# Altium integrated library Panasonic Relays Power Relays (Over 2A).IntLib: 286 symbols (part 6 of 8)
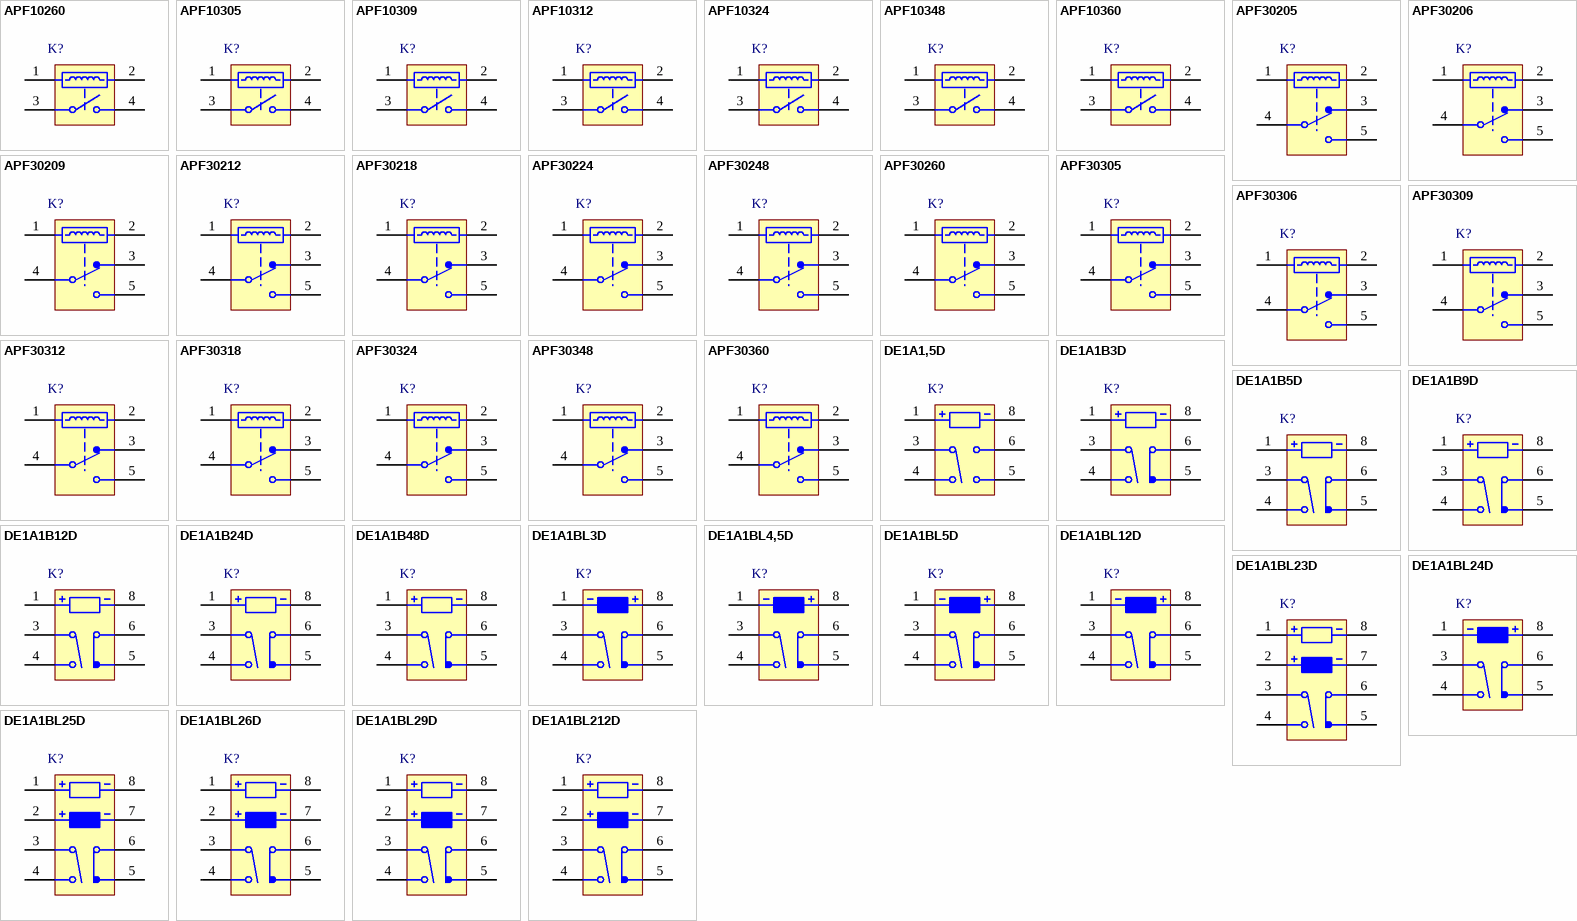
[diagram p12: symbols APF10260 to DE1A1BL212D]

## DE1A1BL24D
designator K?
DE Relays, 24 V Coil Voltage, 100 mW Nominal Operating Power, -40 to 70 degC, 6-Pin DE, Tube, Case, RoHS; Manufacturer: Panasonic; PartNumber: DE1A1BL24D; Coil Voltage: 24 V; Electrical Life: 1x10^5; Max Switching Current: 8 A; Max Switching Voltage: 440 V AC, 230 V DC; Mechanical Life(Min.operation): 1x10^7; Nominal Operating Power: 100 mW; Pb-Free: True; DatasheetVersion: 150313D; PackageVersion: 150313D, 03/2013; PackageReference: DE-6-2500x1250x1250; PackageDescription: 6-Pin Through Hole Terminal Package, Body 25 x 12.5 mm; Supplier 1: Mouser; Supplier Part Number 1: N/A; Packing: Tube, Case; RoHS: True; Series: DE Relays; Mounting Technology: Through Hole; ComponentLink1Description: Manufacturer URL; ComponentLink1URL: http://www3.panasonic.biz/ac/ae/index.jsp; ComponentLink2Description: Datasheet; ComponentLink2URL: https://www.distrelec.de/ishop/Datasheets/ds_61A01_en_de.pdf; ComponentLink3Description: Package Specification; ComponentLink3URL: https://www.distrelec.de/ishop/Datasheets/ds_61A01_en_de.pdf
footprint PNSC-DE-6-2500x1250x1250_V (DE, 6-Leads, Body 25x12.5mm)
pins: 1 -, 3, 4, 5, 6, 8 +

## DE1A1BL25D
designator K?
DE Relays, 5 V Coil Voltage, 200 mW Nominal Operating Power, -40 to 70 degC, 8-Pin DE, Tube, Case, RoHS; Manufacturer: Panasonic; PartNumber: DE1A1BL25D; Coil Voltage: 5 V; Electrical Life: 1x10^5; Max Switching Current: 8 A; Max Switching Voltage: 250 V AC, 30 V DC; Mechanical Life(Min.operation): 1x10^7; Nominal Operating Power: 200 mW; Pb-Free: True; DatasheetVersion: 201402-T; PackageVersion: 150313D, 03/2013; PackageReference: DE-8-2500x1250x1250; PackageDescription: 8-Pin Through Hole Terminal Package, Body 25 x 12.5 mm; Supplier 1: Mouser; Supplier Part Number 1: N/A; Packing: Tube, Case; RoHS: True; Series: DE Relays; Mounting Technology: Through Hole; ComponentLink1Description: Manufacturer URL; ComponentLink1URL: http://www3.panasonic.biz/ac/ae/index.jsp; ComponentLink2Description: Datasheet; ComponentLink2URL: http://www3.panasonic.biz/ac/e_download/control/relay/power/catalog/mech_eng_de.pdf?f_cd=300042; ComponentLink3Description: Package Specification; ComponentLink3URL: https://www.distrelec.de/ishop/Datasheets/ds_61A01_en_de.pdf
footprint PNSC-DE-8-2500x1250x1250_V (DE, 8-Leads, Body 25x12.5mm)
pins: 1 +, 2 +, 3, 4, 5, 6, 7 -, 8 -

## DE1A1BL26D
designator K?
DE Relays, 6 V Coil Voltage, 200 mW Nominal Operating Power, -40 to 70 degC, 8-Pin DE, Tube, Case, RoHS; Manufacturer: Panasonic; PartNumber: DE1A1BL26D; Coil Voltage: 6 V; Electrical Life: 1x10^5; Max Switching Current: 8 A; Max Switching Voltage: 440 V AC, 230 V DC; Mechanical Life(Min.operation): 1x10^7; Nominal Operating Power: 200 mW; Pb-Free: True; DatasheetVersion: 150313D; PackageVersion: 150313D, 03/2013; PackageReference: DE-8-2500x1250x1250; PackageDescription: 8-Pin Through Hole Terminal Package, Body 25 x 12.5 mm; Supplier 1: Mouser; Supplier Part Number 1: N/A; Packing: Tube, Case; RoHS: True; Series: DE Relays; Mounting Technology: Through Hole; ComponentLink1Description: Manufacturer URL; ComponentLink1URL: http://www3.panasonic.biz/ac/ae/index.jsp; ComponentLink2Description: Datasheet; ComponentLink2URL: https://www.distrelec.de/ishop/Datasheets/ds_61A01_en_de.pdf; ComponentLink3Description: Package Specification; ComponentLink3URL: https://www.distrelec.de/ishop/Datasheets/ds_61A01_en_de.pdf
footprint PNSC-DE-8-2500x1250x1250_V (DE, 8-Leads, Body 25x12.5mm)
pins: 1 +, 2 +, 3, 4, 5, 6, 7 -, 8 -

## DE1A1BL29D
designator K?
DE Relays, 9 V Coil Voltage, 200 mW Nominal Operating Power, -40 to 70 degC, 8-Pin DE, Tube, Case, RoHS; Manufacturer: Panasonic; PartNumber: DE1A1BL29D; Coil Voltage: 9 V; Electrical Life: 1x10^5; Max Switching Current: 8 A; Max Switching Voltage: 440 V AC, 230 V DC; Mechanical Life(Min.operation): 1x10^7; Nominal Operating Power: 200 mW; Pb-Free: True; DatasheetVersion: 150313D; PackageVersion: 150313D, 03/2013; PackageReference: DE-8-2500x1250x1250; PackageDescription: 8-Pin Through Hole Terminal Package, Body 25 x 12.5 mm; Supplier 1: Mouser; Supplier Part Number 1: N/A; Packing: Tube, Case; RoHS: True; Series: DE Relays; Mounting Technology: Through Hole; ComponentLink1Description: Manufacturer URL; ComponentLink1URL: http://www3.panasonic.biz/ac/ae/index.jsp; ComponentLink2Description: Datasheet; ComponentLink2URL: https://www.distrelec.de/ishop/Datasheets/ds_61A01_en_de.pdf; ComponentLink3Description: Package Specification; ComponentLink3URL: https://www.distrelec.de/ishop/Datasheets/ds_61A01_en_de.pdf
footprint PNSC-DE-8-2500x1250x1250_V (DE, 8-Leads, Body 25x12.5mm)
pins: 1 +, 2 +, 3, 4, 5, 6, 7 -, 8 -

## DE1A1BL212D
designator K?
DE Relays, 12 V Coil Voltage, 200 mW Nominal Operating Power, -40 to 70 degC, 8-Pin DE, Tube, Case, RoHS; Manufacturer: Panasonic; PartNumber: DE1A1BL212D; Coil Voltage: 12 V; Electrical Life: 1x10^5; Max Switching Current: 8 A; Max Switching Voltage: 250 V AC, 30 V DC; Mechanical Life(Min.operation): 1x10^7; Nominal Operating Power: 200 mW; Pb-Free: True; DatasheetVersion: 201402-T; PackageVersion: 150313D, 03/2013; PackageReference: DE-8-2500x1250x1250; PackageDescription: 8-Pin Through Hole Terminal Package, Body 25 x 12.5 mm; Supplier 1: Mouser; Supplier Part Number 1: N/A; Packing: Tube, Case; RoHS: True; Series: DE Relays; Mounting Technology: Through Hole; ComponentLink1Description: Manufacturer URL; ComponentLink1URL: http://www3.panasonic.biz/ac/ae/index.jsp; ComponentLink2Description: Datasheet; ComponentLink2URL: http://www3.panasonic.biz/ac/e_download/control/relay/power/catalog/mech_eng_de.pdf?f_cd=300042; ComponentLink3Description: Package Specification; ComponentLink3URL: https://www.distrelec.de/ishop/Datasheets/ds_61A01_en_de.pdf
footprint PNSC-DE-8-2500x1250x1250_V (DE, 8-Leads, Body 25x12.5mm)
pins: 1 +, 2 +, 3, 4, 5, 6, 7 -, 8 -

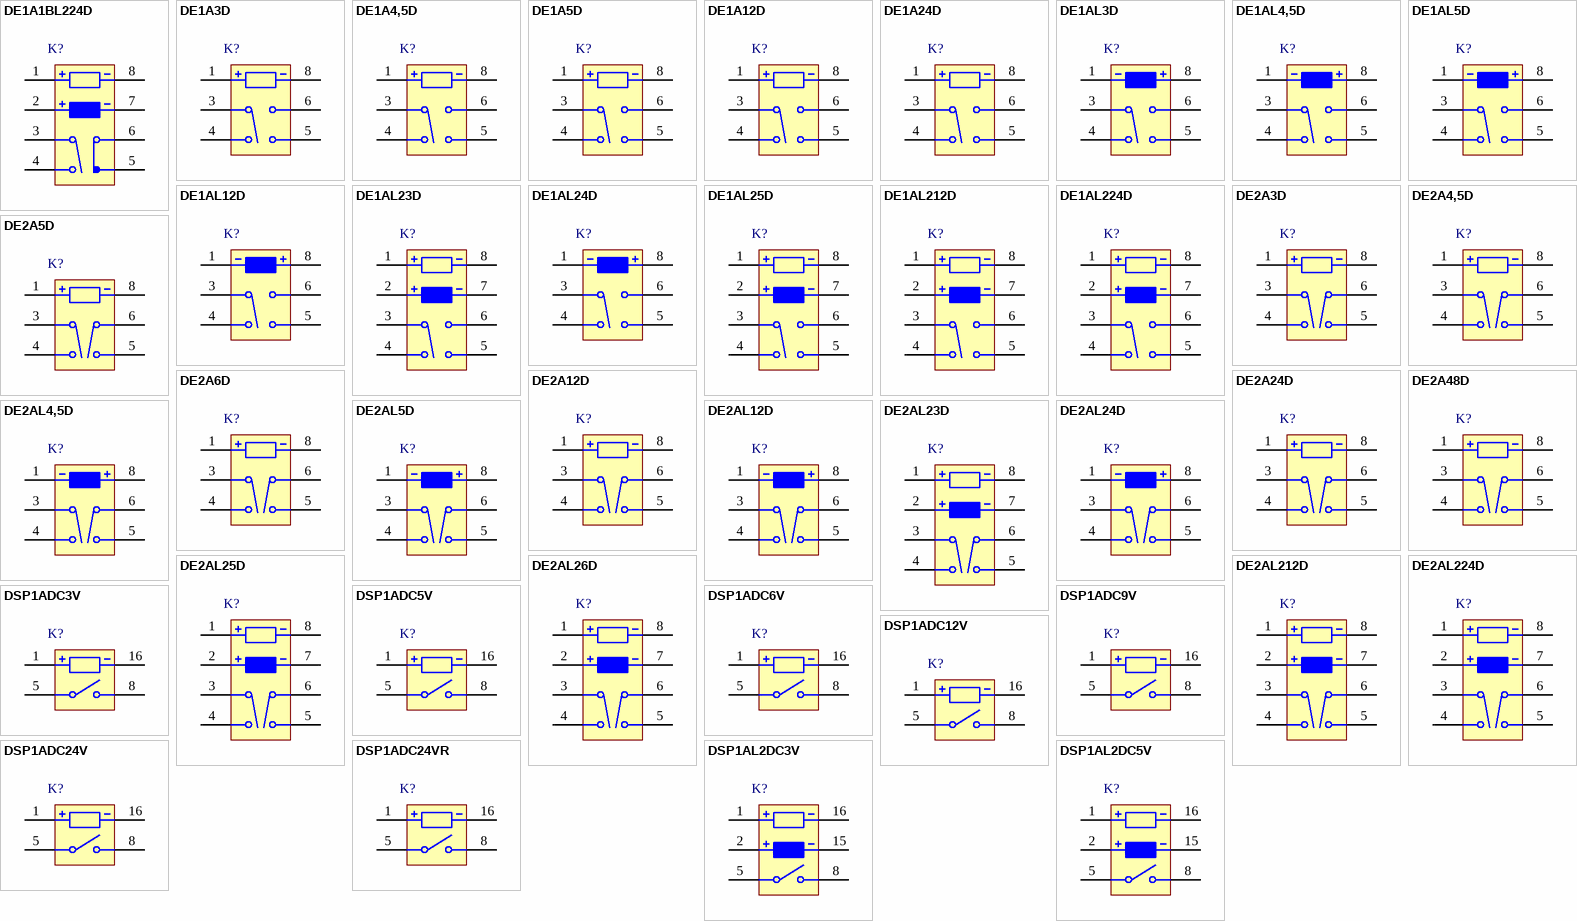
[diagram p5: symbols DE1A1BL224D to DSP1AL2DC5V]

## DE1A1BL224D
designator K?
DE Relays, 24 V Coil Voltage, 200 mW Nominal Operating Power, -40 to 70 degC, 8-Pin DE, Tube, Case, RoHS; Manufacturer: Panasonic; PartNumber: DE1A1BL224D; Coil Voltage: 24 V; Electrical Life: 1x10^5; Max Switching Current: 8 A; Max Switching Voltage: 250 V AC, 30 V DC; Mechanical Life(Min.operation): 1x10^7; Nominal Operating Power: 200 mW; Pb-Free: True; DatasheetVersion: 201402-T; PackageVersion: 150313D, 03/2013; PackageReference: DE-8-2500x1250x1250; PackageDescription: 8-Pin Through Hole Terminal Package, Body 25 x 12.5 mm; Supplier 1: Mouser; Supplier Part Number 1: N/A; Packing: Tube, Case; RoHS: True; Series: DE Relays; Mounting Technology: Through Hole; ComponentLink1Description: Manufacturer URL; ComponentLink1URL: http://www3.panasonic.biz/ac/ae/index.jsp; ComponentLink2Description: Datasheet; ComponentLink2URL: http://www3.panasonic.biz/ac/e_download/control/relay/power/catalog/mech_eng_de.pdf?f_cd=300042; ComponentLink3Description: Package Specification; ComponentLink3URL: https://www.distrelec.de/ishop/Datasheets/ds_61A01_en_de.pdf
footprint PNSC-DE-8-2500x1250x1250_V (DE, 8-Leads, Body 25x12.5mm)
pins: 1 +, 2 +, 3, 4, 5, 6, 7 -, 8 -

## DE1A3D
designator K?
DE Relays, 3 V Coil Voltage, 200 mW Nominal Operating Power, -40 to 70 degC, 6-Pin DE, Tube, Case, RoHS; Manufacturer: Panasonic; PartNumber: DE1A3D; Coil Voltage: 3 V; Electrical Life: 1x10^5; Max Switching Current: 10 A; Max Switching Voltage: 440 V AC, 230 V DC; Mechanical Life(Min.operation): 1x10^7; Nominal Operating Power: 200 mW; Pb-Free: True; DatasheetVersion: 150313D; PackageVersion: 150313D, 03/2013; PackageReference: DE-6-2500x1250x1250; PackageDescription: 6-Pin Through Hole Terminal Package, Body 25 x 12.5 mm; Supplier 1: Mouser; Supplier Part Number 1: N/A; Packing: Tube, Case; RoHS: True; Series: DE Relays; Mounting Technology: Through Hole; ComponentLink1Description: Manufacturer URL; ComponentLink1URL: http://www3.panasonic.biz/ac/ae/index.jsp; ComponentLink2Description: Datasheet; ComponentLink2URL: https://www.distrelec.de/ishop/Datasheets/ds_61A01_en_de.pdf; ComponentLink3Description: Package Specification; ComponentLink3URL: https://www.distrelec.de/ishop/Datasheets/ds_61A01_en_de.pdf
footprint PNSC-DE-6-2500x1250x1250_V (DE, 6-Leads, Body 25x12.5mm)
pins: 1 +, 3, 4, 5, 6, 8 -

## DE1A4,5D
designator K?
DE Relays, 4.5 V Coil Voltage, 200 mW Nominal Operating Power, -40 to 70 degC, 6-Pin DE, Tube, Case, RoHS; Manufacturer: Panasonic; PartNumber: DE1A4,5D; Coil Voltage: 4.5 V; Electrical Life: 1x10^5; Max Switching Current: 10 A; Max Switching Voltage: 440 V AC, 230 V DC; Mechanical Life(Min.operation): 1x10^7; Nominal Operating Power: 200 mW; Pb-Free: True; DatasheetVersion: 150313D; PackageVersion: 150313D, 03/2013; PackageReference: DE-6-2500x1250x1250; PackageDescription: 6-Pin Through Hole Terminal Package, Body 25 x 12.5 mm; Supplier 1: Mouser; Supplier Part Number 1: N/A; Packing: Tube, Case; RoHS: True; Series: DE Relays; Mounting Technology: Through Hole; ComponentLink1Description: Manufacturer URL; ComponentLink1URL: http://www3.panasonic.biz/ac/ae/index.jsp; ComponentLink2Description: Datasheet; ComponentLink2URL: https://www.distrelec.de/ishop/Datasheets/ds_61A01_en_de.pdf; ComponentLink3Description: Package Specification; ComponentLink3URL: https://www.distrelec.de/ishop/Datasheets/ds_61A01_en_de.pdf
footprint PNSC-DE-6-2500x1250x1250_V (DE, 6-Leads, Body 25x12.5mm)
pins: 1 +, 3, 4, 5, 6, 8 -

## DE1A5D
designator K?
DE Relays, 5 V Coil Voltage, 200 mW Nominal Operating Power, -40 to 70 degC, 6-Pin DE, Tube, Case, RoHS; Manufacturer: Panasonic; PartNumber: DE1A5D; Coil Voltage: 5 V; Electrical Life: 1x10^5; Max Switching Current: 10 A; Max Switching Voltage: 250 V AC, 30 V DC; Mechanical Life(Min.operation): 1x10^7; Nominal Operating Power: 200 mW; Pb-Free: True; DatasheetVersion: 201402-T; PackageVersion: ASCTB175E, 02/2014; PackageReference: DE-6-2500x1250x1250; PackageDescription: 6-Pin Through Hole Terminal Package, Body 25 x 12.5 mm; Supplier 1: Mouser; Supplier Part Number 1: N/A; Packing: Tube, Case; RoHS: True; Series: DE Relays; Mounting Technology: Through Hole; ComponentLink1Description: Manufacturer URL; ComponentLink1URL: http://www3.panasonic.biz/ac/ae/index.jsp; ComponentLink2Description: Datasheet; ComponentLink2URL: http://www3.panasonic.biz/ac/e_download/control/relay/power/catalog/mech_eng_de.pdf?f_cd=300042; ComponentLink3Description: Package Specification; ComponentLink3URL: http://www3.panasonic.biz/ac/e_download/control/relay/power/catalog/mech_eng_de.pdf?f_cd=300042
footprint PNSC-DE-6-2500x1250x1250_V (DE, 6-Leads, Body 25x12.5mm)
pins: 1 +, 3, 4, 5, 6, 8 -

## DE1A12D
designator K?
DE Relays, 12 V Coil Voltage, 200 mW Nominal Operating Power, -40 to 70 degC, 6-Pin DE, Tube, Case, RoHS; Manufacturer: Panasonic; PartNumber: DE1A12D; Coil Voltage: 12 V; Electrical Life: 1x10^5; Max Switching Current: 10 A; Max Switching Voltage: 250 V AC, 30 V DC; Mechanical Life(Min.operation): 1x10^7; Nominal Operating Power: 200 mW; Pb-Free: True; DatasheetVersion: 201402-T; PackageVersion: ASCTB175E, 02/2014; PackageReference: DE-6-2500x1250x1250; PackageDescription: 6-Pin Through Hole Terminal Package, Body 25 x 12.5 mm; Supplier 1: Mouser; Supplier Part Number 1: N/A; Packing: Tube, Case; RoHS: True; Series: DE Relays; Mounting Technology: Through Hole; ComponentLink1Description: Manufacturer URL; ComponentLink1URL: http://www3.panasonic.biz/ac/ae/index.jsp; ComponentLink2Description: Datasheet; ComponentLink2URL: http://www3.panasonic.biz/ac/e_download/control/relay/power/catalog/mech_eng_de.pdf?f_cd=300042; ComponentLink3Description: Package Specification; ComponentLink3URL: http://www3.panasonic.biz/ac/e_download/control/relay/power/catalog/mech_eng_de.pdf?f_cd=300042
footprint PNSC-DE-6-2500x1250x1250_V (DE, 6-Leads, Body 25x12.5mm)
pins: 1 +, 3, 4, 5, 6, 8 -

## DE1A24D
designator K?
DE Relays, 24 V Coil Voltage, 200 mW Nominal Operating Power, -40 to 70 degC, 6-Pin DE, Tube, Case, RoHS; Manufacturer: Panasonic; PartNumber: DE1A24D; Coil Voltage: 24 V; Electrical Life: 1x10^5; Max Switching Current: 10 A; Max Switching Voltage: 250 V AC, 30 V DC; Mechanical Life(Min.operation): 1x10^7; Nominal Operating Power: 200 mW; Pb-Free: True; DatasheetVersion: 201402-T; PackageVersion: ASCTB175E, 02/2014; PackageReference: DE-6-2500x1250x1250; PackageDescription: 6-Pin Through Hole Terminal Package, Body 25 x 12.5 mm; Supplier 1: Mouser; Supplier Part Number 1: N/A; Packing: Tube, Case; RoHS: True; Series: DE Relays; Mounting Technology: Through Hole; ComponentLink1Description: Manufacturer URL; ComponentLink1URL: http://www3.panasonic.biz/ac/ae/index.jsp; ComponentLink2Description: Datasheet; ComponentLink2URL: http://www3.panasonic.biz/ac/e_download/control/relay/power/catalog/mech_eng_de.pdf?f_cd=300042; ComponentLink3Description: Package Specification; ComponentLink3URL: http://www3.panasonic.biz/ac/e_download/control/relay/power/catalog/mech_eng_de.pdf?f_cd=300042
footprint PNSC-DE-6-2500x1250x1250_V (DE, 6-Leads, Body 25x12.5mm)
pins: 1 +, 3, 4, 5, 6, 8 -

## DE1AL3D
designator K?
DE Relays, 3 V Coil Voltage, 100 mW Nominal Operating Power, -40 to 70 degC, 6-Pin DE, Tube, Case, RoHS; Manufacturer: Panasonic; PartNumber: DE1AL3D; Coil Voltage: 3 V; Electrical Life: 1x10^5; Max Switching Current: 10 A; Max Switching Voltage: 440 V AC, 230 V DC; Mechanical Life(Min.operation): 1x10^7; Nominal Operating Power: 100 mW; Pb-Free: True; DatasheetVersion: 150313D; PackageVersion: 150313D, 03/2013; PackageReference: DE-6-2500x1250x1250; PackageDescription: 6-Pin Through Hole Terminal Package, Body 25 x 12.5 mm; Supplier 1: Mouser; Supplier Part Number 1: N/A; Packing: Tube, Case; RoHS: True; Series: DE Relays; Mounting Technology: Through Hole; ComponentLink1Description: Manufacturer URL; ComponentLink1URL: http://www3.panasonic.biz/ac/ae/index.jsp; ComponentLink2Description: Datasheet; ComponentLink2URL: https://www.distrelec.de/ishop/Datasheets/ds_61A01_en_de.pdf; ComponentLink3Description: Package Specification; ComponentLink3URL: https://www.distrelec.de/ishop/Datasheets/ds_61A01_en_de.pdf
footprint PNSC-DE-6-2500x1250x1250_V (DE, 6-Leads, Body 25x12.5mm)
pins: 1 -, 3, 4, 5, 6, 8 +

## DE1AL4,5D
designator K?
DE Relays, 4.5 V Coil Voltage, 100 mW Nominal Operating Power, -40 to 70 degC, 6-Pin DE, Tube, Case, RoHS; Manufacturer: Panasonic; PartNumber: DE1AL4,5D; Coil Voltage: 4.5 V; Electrical Life: 1x10^5; Max Switching Current: 10 A; Max Switching Voltage: 440 V AC, 230 V DC; Mechanical Life(Min.operation): 1x10^7; Nominal Operating Power: 100 mW; Pb-Free: True; DatasheetVersion: 150313D; PackageVersion: 150313D, 03/2013; PackageReference: DE-6-2500x1250x1250; PackageDescription: 6-Pin Through Hole Terminal Package, Body 25 x 12.5 mm; Supplier 1: Mouser; Supplier Part Number 1: N/A; Packing: Tube, Case; RoHS: True; Series: DE Relays; Mounting Technology: Through Hole; ComponentLink1Description: Manufacturer URL; ComponentLink1URL: http://www3.panasonic.biz/ac/ae/index.jsp; ComponentLink2Description: Datasheet; ComponentLink2URL: https://www.distrelec.de/ishop/Datasheets/ds_61A01_en_de.pdf; ComponentLink3Description: Package Specification; ComponentLink3URL: https://www.distrelec.de/ishop/Datasheets/ds_61A01_en_de.pdf
footprint PNSC-DE-6-2500x1250x1250_V (DE, 6-Leads, Body 25x12.5mm)
pins: 1 -, 3, 4, 5, 6, 8 +

## DE1AL5D
designator K?
DE Relays, 5 V Coil Voltage, 100 mW Nominal Operating Power, -40 to 70 degC, 6-Pin DE, Tube, Case, RoHS; Manufacturer: Panasonic; PartNumber: DE1AL5D; Coil Voltage: 5 V; Electrical Life: 1x10^5; Max Switching Current: 10 A; Max Switching Voltage: 440 V AC, 230 V DC; Mechanical Life(Min.operation): 1x10^7; Nominal Operating Power: 100 mW; Pb-Free: True; DatasheetVersion: 150313D; PackageVersion: 150313D, 03/2013; PackageReference: DE-6-2500x1250x1250; PackageDescription: 6-Pin Through Hole Terminal Package, Body 25 x 12.5 mm; Supplier 1: Mouser; Supplier Part Number 1: N/A; Packing: Tube, Case; RoHS: True; Series: DE Relays; Mounting Technology: Through Hole; ComponentLink1Description: Manufacturer URL; ComponentLink1URL: http://www3.panasonic.biz/ac/ae/index.jsp; ComponentLink2Description: Datasheet; ComponentLink2URL: https://www.distrelec.de/ishop/Datasheets/ds_61A01_en_de.pdf; ComponentLink3Description: Package Specification; ComponentLink3URL: https://www.distrelec.de/ishop/Datasheets/ds_61A01_en_de.pdf
footprint PNSC-DE-6-2500x1250x1250_V (DE, 6-Leads, Body 25x12.5mm)
pins: 1 -, 3, 4, 5, 6, 8 +

## DE1AL12D
designator K?
DE Relays, 12 V Coil Voltage, 100 mW Nominal Operating Power, -40 to 70 degC, 6-Pin DE, Tube, Case, RoHS; Manufacturer: Panasonic; PartNumber: DE1AL12D; Coil Voltage: 12 V; Electrical Life: 1x10^5; Max Switching Current: 10 A; Max Switching Voltage: 440 V AC, 230 V DC; Mechanical Life(Min.operation): 1x10^7; Nominal Operating Power: 100 mW; Pb-Free: True; DatasheetVersion: 150313D; PackageVersion: 150313D, 03/2013; PackageReference: DE-6-2500x1250x1250; PackageDescription: 6-Pin Through Hole Terminal Package, Body 25 x 12.5 mm; Supplier 1: Mouser; Supplier Part Number 1: N/A; Packing: Tube, Case; RoHS: True; Series: DE Relays; Mounting Technology: Through Hole; ComponentLink1Description: Manufacturer URL; ComponentLink1URL: http://www3.panasonic.biz/ac/ae/index.jsp; ComponentLink2Description: Datasheet; ComponentLink2URL: https://www.distrelec.de/ishop/Datasheets/ds_61A01_en_de.pdf; ComponentLink3Description: Package Specification; ComponentLink3URL: https://www.distrelec.de/ishop/Datasheets/ds_61A01_en_de.pdf
footprint PNSC-DE-6-2500x1250x1250_V (DE, 6-Leads, Body 25x12.5mm)
pins: 1 -, 3, 4, 5, 6, 8 +

## DE1AL23D
designator K?
DE Relays, 3 V Coil Voltage, 200 mW Nominal Operating Power, -40 to 70 degC, 8-Pin DE, Tube, Case, RoHS; Manufacturer: Panasonic; PartNumber: DE1AL23D; Coil Voltage: 3 V; Electrical Life: 1x10^5; Max Switching Current: 10 A; Max Switching Voltage: 440 V AC, 230 V DC; Mechanical Life(Min.operation): 1x10^7; Nominal Operating Power: 200 mW; Pb-Free: True; DatasheetVersion: 150313D; PackageVersion: 150313D, 03/2013; PackageReference: DE-8-2500x1250x1250; PackageDescription: 8-Pin Through Hole Terminal Package, Body 25 x 12.5 mm; Supplier 1: Mouser; Supplier Part Number 1: N/A; Packing: Tube, Case; RoHS: True; Series: DE Relays; Mounting Technology: Through Hole; ComponentLink1Description: Manufacturer URL; ComponentLink1URL: http://www3.panasonic.biz/ac/ae/index.jsp; ComponentLink2Description: Datasheet; ComponentLink2URL: https://www.distrelec.de/ishop/Datasheets/ds_61A01_en_de.pdf; ComponentLink3Description: Package Specification; ComponentLink3URL: https://www.distrelec.de/ishop/Datasheets/ds_61A01_en_de.pdf
footprint PNSC-DE-8-2500x1250x1250_V (DE, 8-Leads, Body 25x12.5mm)
pins: 1 +, 2 +, 3, 4, 5, 6, 7 -, 8 -

## DE1AL24D
designator K?
DE Relays, 24 V Coil Voltage, 100 mW Nominal Operating Power, -40 to 70 degC, 6-Pin DE, Tube, Case, RoHS; Manufacturer: Panasonic; PartNumber: DE1AL24D; Coil Voltage: 24 V; Electrical Life: 1x10^5; Max Switching Current: 10 A; Max Switching Voltage: 440 V AC, 230 V DC; Mechanical Life(Min.operation): 1x10^7; Nominal Operating Power: 100 mW; Pb-Free: True; DatasheetVersion: 150313D; PackageVersion: 150313D, 03/2013; PackageReference: DE-6-2500x1250x1250; PackageDescription: 6-Pin Through Hole Terminal Package, Body 25 x 12.5 mm; Supplier 1: Mouser; Supplier Part Number 1: N/A; Packing: Tube, Case; RoHS: True; Series: DE Relays; Mounting Technology: Through Hole; ComponentLink1Description: Manufacturer URL; ComponentLink1URL: http://www3.panasonic.biz/ac/ae/index.jsp; ComponentLink2Description: Datasheet; ComponentLink2URL: https://www.distrelec.de/ishop/Datasheets/ds_61A01_en_de.pdf; ComponentLink3Description: Package Specification; ComponentLink3URL: https://www.distrelec.de/ishop/Datasheets/ds_61A01_en_de.pdf
footprint PNSC-DE-6-2500x1250x1250_V (DE, 6-Leads, Body 25x12.5mm)
pins: 1 -, 3, 4, 5, 6, 8 +

## DE1AL25D
designator K?
DE Relays, 5 V Coil Voltage, 200 mW Nominal Operating Power, -40 to 70 degC, 8-Pin DE, Tube, Case, RoHS; Manufacturer: Panasonic; PartNumber: DE1AL25D; Coil Voltage: 5 V; Electrical Life: 1x10^5; Max Switching Current: 10 A; Max Switching Voltage: 250 V AC, 30 V DC; Mechanical Life(Min.operation): 1x10^7; Nominal Operating Power: 200 mW; Pb-Free: True; DatasheetVersion: 201402-T; PackageVersion: 150313D, 03/2013; PackageReference: DE-8-2500x1250x1250; PackageDescription: 8-Pin Through Hole Terminal Package, Body 25 x 12.5 mm; Supplier 1: Mouser; Supplier Part Number 1: N/A; Packing: Tube, Case; RoHS: True; Series: DE Relays; Mounting Technology: Through Hole; ComponentLink1Description: Manufacturer URL; ComponentLink1URL: http://www3.panasonic.biz/ac/ae/index.jsp; ComponentLink2Description: Datasheet; ComponentLink2URL: http://www3.panasonic.biz/ac/e_download/control/relay/power/catalog/mech_eng_de.pdf?f_cd=300042; ComponentLink3Description: Package Specification; ComponentLink3URL: https://www.distrelec.de/ishop/Datasheets/ds_61A01_en_de.pdf
footprint PNSC-DE-8-2500x1250x1250_V (DE, 8-Leads, Body 25x12.5mm)
pins: 1 +, 2 +, 3, 4, 5, 6, 7 -, 8 -

## DE1AL212D
designator K?
DE Relays, 12 V Coil Voltage, 200 mW Nominal Operating Power, -40 to 70 degC, 8-Pin DE, Tube, Case, RoHS; Manufacturer: Panasonic; PartNumber: DE1AL212D; Coil Voltage: 12 V; Electrical Life: 1x10^5; Max Switching Current: 10 A; Max Switching Voltage: 250 V AC, 30 V DC; Mechanical Life(Min.operation): 1x10^7; Nominal Operating Power: 200 mW; Pb-Free: True; DatasheetVersion: 201402-T; PackageVersion: 150313D, 03/2013; PackageReference: DE-8-2500x1250x1250; PackageDescription: 8-Pin Through Hole Terminal Package, Body 25 x 12.5 mm; Supplier 1: Mouser; Supplier Part Number 1: N/A; Packing: Tube, Case; RoHS: True; Series: DE Relays; Mounting Technology: Through Hole; ComponentLink1Description: Manufacturer URL; ComponentLink1URL: http://www3.panasonic.biz/ac/ae/index.jsp; ComponentLink2Description: Datasheet; ComponentLink2URL: http://www3.panasonic.biz/ac/e_download/control/relay/power/catalog/mech_eng_de.pdf?f_cd=300042; ComponentLink3Description: Package Specification; ComponentLink3URL: https://www.distrelec.de/ishop/Datasheets/ds_61A01_en_de.pdf
footprint PNSC-DE-8-2500x1250x1250_V (DE, 8-Leads, Body 25x12.5mm)
pins: 1 +, 2 +, 3, 4, 5, 6, 7 -, 8 -

## DE1AL224D
designator K?
DE Relays, 24 V Coil Voltage, 200 mW Nominal Operating Power, -40 to 70 degC, 8-Pin DE, Tube, Case, RoHS; Manufacturer: Panasonic; PartNumber: DE1AL224D; Coil Voltage: 24 V; Electrical Life: 1x10^5; Max Switching Current: 10 A; Max Switching Voltage: 250 V AC, 30 V DC; Mechanical Life(Min.operation): 1x10^7; Nominal Operating Power: 200 mW; Pb-Free: True; DatasheetVersion: 201402-T; PackageVersion: 150313D, 03/2013; PackageReference: DE-8-2500x1250x1250; PackageDescription: 8-Pin Through Hole Terminal Package, Body 25 x 12.5 mm; Supplier 1: Mouser; Supplier Part Number 1: N/A; Packing: Tube, Case; RoHS: True; Series: DE Relays; Mounting Technology: Through Hole; ComponentLink1Description: Manufacturer URL; ComponentLink1URL: http://www3.panasonic.biz/ac/ae/index.jsp; ComponentLink2Description: Datasheet; ComponentLink2URL: http://www3.panasonic.biz/ac/e_download/control/relay/power/catalog/mech_eng_de.pdf?f_cd=300042; ComponentLink3Description: Package Specification; ComponentLink3URL: https://www.distrelec.de/ishop/Datasheets/ds_61A01_en_de.pdf
footprint PNSC-DE-8-2500x1250x1250_V (DE, 8-Leads, Body 25x12.5mm)
pins: 1 +, 2 +, 3, 4, 5, 6, 7 -, 8 -

## DE2A3D
designator K?
DE Relays, 3 V Coil Voltage, 200 mW Nominal Operating Power, -40 to 70 degC, 6-Pin DE, Tube, Case, RoHS; Manufacturer: Panasonic; PartNumber: DE2A3D; Coil Voltage: 3 V; Electrical Life: 1x10^5 AC, 5x10^4 DC; Max Switching Current: 8 A; Max Switching Voltage: 440 V AC, 230 V DC; Mechanical Life(Min.operation): 1x10^7; Nominal Operating Power: 200 mW; Pb-Free: True; DatasheetVersion: 150313D; PackageVersion: 150313D, 03/2013; PackageReference: DE-6-2500x1250x1250; PackageDescription: 6-Pin Through Hole Terminal Package, Body 25 x 12.5 mm; Supplier 1: Mouser; Supplier Part Number 1: N/A; Packing: Tube, Case; RoHS: True; Series: DE Relays; Mounting Technology: Through Hole; ComponentLink1Description: Manufacturer URL; ComponentLink1URL: http://www3.panasonic.biz/ac/ae/index.jsp; ComponentLink2Description: Datasheet; ComponentLink2URL: https://www.distrelec.de/ishop/Datasheets/ds_61A01_en_de.pdf; ComponentLink3Description: Package Specification; ComponentLink3URL: https://www.distrelec.de/ishop/Datasheets/ds_61A01_en_de.pdf
footprint PNSC-DE-6-2500x1250x1250_V (DE, 6-Leads, Body 25x12.5mm)
pins: 1 +, 3, 4, 5, 6, 8 -

## DE2A4,5D
designator K?
DE Relays, 4.5 V Coil Voltage, 200 mW Nominal Operating Power, -40 to 70 degC, 6-Pin DE, Tube, Case, RoHS; Manufacturer: Panasonic; PartNumber: DE2A4,5D; Coil Voltage: 4.5 V; Electrical Life: 1x10^5 AC, 5x10^4 DC; Max Switching Current: 8 A; Max Switching Voltage: 440 V AC, 230 V DC; Mechanical Life(Min.operation): 1x10^7; Nominal Operating Power: 200 mW; Pb-Free: True; DatasheetVersion: 150313D; PackageVersion: 150313D, 03/2013; PackageReference: DE-6-2500x1250x1250; PackageDescription: 6-Pin Through Hole Terminal Package, Body 25 x 12.5 mm; Supplier 1: Mouser; Supplier Part Number 1: N/A; Packing: Tube, Case; RoHS: True; Series: DE Relays; Mounting Technology: Through Hole; ComponentLink1Description: Manufacturer URL; ComponentLink1URL: http://www3.panasonic.biz/ac/ae/index.jsp; ComponentLink2Description: Datasheet; ComponentLink2URL: https://www.distrelec.de/ishop/Datasheets/ds_61A01_en_de.pdf; ComponentLink3Description: Package Specification; ComponentLink3URL: https://www.distrelec.de/ishop/Datasheets/ds_61A01_en_de.pdf
footprint PNSC-DE-6-2500x1250x1250_V (DE, 6-Leads, Body 25x12.5mm)
pins: 1 +, 3, 4, 5, 6, 8 -

## DE2A5D
designator K?
DE Relays, 5 V Coil Voltage, 200 mW Nominal Operating Power, -40 to 70 degC, 6-Pin DE, Tube, Case, RoHS; Manufacturer: Panasonic; PartNumber: DE2A5D; Coil Voltage: 5 V; Electrical Life: 1x10^5 AC, 5x10^4 DC; Max Switching Current: 8 A; Max Switching Voltage: 250 V AC, 30 V DC; Mechanical Life(Min.operation): 1x10^7; Nominal Operating Power: 200 mW; Pb-Free: True; DatasheetVersion: 201402-T; PackageVersion: ASCTB175E, 02/2014; PackageReference: DE-6-2500x1250x1250; PackageDescription: 6-Pin Through Hole Terminal Package, Body 25 x 12.5 mm; Supplier 1: Mouser; Supplier Part Number 1: N/A; Packing: Tube, Case; RoHS: True; Series: DE Relays; Mounting Technology: Through Hole; ComponentLink1Description: Manufacturer URL; ComponentLink1URL: http://www3.panasonic.biz/ac/ae/index.jsp; ComponentLink2Description: Datasheet; ComponentLink2URL: http://www3.panasonic.biz/ac/e_download/control/relay/power/catalog/mech_eng_de.pdf?f_cd=300042; ComponentLink3Description: Package Specification; ComponentLink3URL: http://www3.panasonic.biz/ac/e_download/control/relay/power/catalog/mech_eng_de.pdf?f_cd=300042
footprint PNSC-DE-6-2500x1250x1250_V (DE, 6-Leads, Body 25x12.5mm)
pins: 1 +, 3, 4, 5, 6, 8 -

## DE2A6D
designator K?
DE Relays, 6 V Coil Voltage, 200 mW Nominal Operating Power, -40 to 70 degC, 6-Pin DE, Tube, Case, RoHS; Manufacturer: Panasonic; PartNumber: DE2A6D; Coil Voltage: 6 V; Electrical Life: 1x10^5 AC, 5x10^4 DC; Max Switching Current: 8 A; Max Switching Voltage: 440 V AC, 230 V DC; Mechanical Life(Min.operation): 1x10^7; Nominal Operating Power: 200 mW; Pb-Free: True; DatasheetVersion: 150313D; PackageVersion: 150313D, 03/2013; PackageReference: DE-6-2500x1250x1250; PackageDescription: 6-Pin Through Hole Terminal Package, Body 25 x 12.5 mm; Packing: Tube, Case; RoHS: True; Series: DE Relays; Mounting Technology: Through Hole; ComponentLink1Description: Manufacturer URL; ComponentLink1URL: http://www3.panasonic.biz/ac/ae/index.jsp; ComponentLink2Description: Datasheet; ComponentLink2URL: https://www.distrelec.de/ishop/Datasheets/ds_61A01_en_de.pdf; ComponentLink3Description: Package Specification; ComponentLink3URL: https://www.distrelec.de/ishop/Datasheets/ds_61A01_en_de.pdf
footprint PNSC-DE-6-2500x1250x1250_V (DE, 6-Leads, Body 25x12.5mm)
pins: 1 +, 3, 4, 5, 6, 8 -

## DE2A12D
designator K?
DE Relays, 12 V Coil Voltage, 200 mW Nominal Operating Power, -40 to 70 degC, 6-Pin DE, Tube, Case, RoHS; Manufacturer: Panasonic; PartNumber: DE2A12D; Coil Voltage: 12 V; Electrical Life: 1x10^5 AC, 5x10^4 DC; Max Switching Current: 8 A; Max Switching Voltage: 250 V AC, 30 V DC; Mechanical Life(Min.operation): 1x10^7; Nominal Operating Power: 200 mW; Pb-Free: True; DatasheetVersion: 201402-T; PackageVersion: ASCTB175E, 02/2014; PackageReference: DE-6-2500x1250x1250; PackageDescription: 6-Pin Through Hole Terminal Package, Body 25 x 12.5 mm; Supplier 1: Mouser; Supplier Part Number 1: N/A; Packing: Tube, Case; RoHS: True; Series: DE Relays; Mounting Technology: Through Hole; ComponentLink1Description: Manufacturer URL; ComponentLink1URL: http://www3.panasonic.biz/ac/ae/index.jsp; ComponentLink2Description: Datasheet; ComponentLink2URL: http://www3.panasonic.biz/ac/e_download/control/relay/power/catalog/mech_eng_de.pdf?f_cd=300042; ComponentLink3Description: Package Specification; ComponentLink3URL: http://www3.panasonic.biz/ac/e_download/control/relay/power/catalog/mech_eng_de.pdf?f_cd=300042
footprint PNSC-DE-6-2500x1250x1250_V (DE, 6-Leads, Body 25x12.5mm)
pins: 1 +, 3, 4, 5, 6, 8 -

## DE2A24D
designator K?
DE Relays, 24 V Coil Voltage, 200 mW Nominal Operating Power, -40 to 70 degC, 6-Pin DE, Tube, Case, RoHS; Manufacturer: Panasonic; PartNumber: DE2A24D; Coil Voltage: 24 V; Electrical Life: 1x10^5 AC, 5x10^4 DC; Max Switching Current: 8 A; Max Switching Voltage: 250 V AC, 30 V DC; Mechanical Life(Min.operation): 1x10^7; Nominal Operating Power: 200 mW; Pb-Free: True; DatasheetVersion: 201402-T; PackageVersion: ASCTB175E, 02/2014; PackageReference: DE-6-2500x1250x1250; PackageDescription: 6-Pin Through Hole Terminal Package, Body 25 x 12.5 mm; Supplier 1: Mouser; Supplier Part Number 1: N/A; Packing: Tube, Case; RoHS: True; Series: DE Relays; Mounting Technology: Through Hole; ComponentLink1Description: Manufacturer URL; ComponentLink1URL: http://www3.panasonic.biz/ac/ae/index.jsp; ComponentLink2Description: Datasheet; ComponentLink2URL: http://www3.panasonic.biz/ac/e_download/control/relay/power/catalog/mech_eng_de.pdf?f_cd=300042; ComponentLink3Description: Package Specification; ComponentLink3URL: http://www3.panasonic.biz/ac/e_download/control/relay/power/catalog/mech_eng_de.pdf?f_cd=300042
footprint PNSC-DE-6-2500x1250x1250_V (DE, 6-Leads, Body 25x12.5mm)
pins: 1 +, 3, 4, 5, 6, 8 -

## DE2A48D
designator K?
DE Relays, 48 V Coil Voltage, 200 mW Nominal Operating Power, -40 to 70 degC, 6-Pin DE, Tube, Case, RoHS; Manufacturer: Panasonic; PartNumber: DE2A48D; Coil Voltage: 48 V; Electrical Life: 1x10^5 AC, 5x10^4 DC; Max Switching Current: 8 A; Max Switching Voltage: 440 V AC, 230 V DC; Mechanical Life(Min.operation): 1x10^7; Nominal Operating Power: 200 mW; Pb-Free: True; DatasheetVersion: 150313D; PackageVersion: 150313D, 03/2013; PackageReference: DE-6-2500x1250x1250; PackageDescription: 6-Pin Through Hole Terminal Package, Body 25 x 12.5 mm; Supplier 1: Mouser; Supplier Part Number 1: N/A; Packing: Tube, Case; RoHS: True; Series: DE Relays; Mounting Technology: Through Hole; ComponentLink1Description: Manufacturer URL; ComponentLink1URL: http://www3.panasonic.biz/ac/ae/index.jsp; ComponentLink2Description: Datasheet; ComponentLink2URL: https://www.distrelec.de/ishop/Datasheets/ds_61A01_en_de.pdf; ComponentLink3Description: Package Specification; ComponentLink3URL: https://www.distrelec.de/ishop/Datasheets/ds_61A01_en_de.pdf
footprint PNSC-DE-6-2500x1250x1250_V (DE, 6-Leads, Body 25x12.5mm)
pins: 1 +, 3, 4, 5, 6, 8 -

## DE2AL4,5D
designator K?
DE Relays, 4.5 V Coil Voltage, 100 mW Nominal Operating Power, -40 to 70 degC, 6-Pin DE, Tube, Case, RoHS; Manufacturer: Panasonic; PartNumber: DE2AL4,5D; Coil Voltage: 4.5 V; Electrical Life: 1x10^5 AC, 5x10^4 DC; Max Switching Current: 8 A; Max Switching Voltage: 440 V AC, 230 V DC; Mechanical Life(Min.operation): 1x10^7; Nominal Operating Power: 100 mW; Pb-Free: True; DatasheetVersion: 150313D; PackageVersion: 150313D, 03/2013; PackageReference: DE-6-2500x1250x1250; PackageDescription: 6-Pin Through Hole Terminal Package, Body 25 x 12.5 mm; Supplier 1: Mouser; Supplier Part Number 1: N/A; Packing: Tube, Case; RoHS: True; Series: DE Relays; Mounting Technology: Through Hole; ComponentLink1Description: Manufacturer URL; ComponentLink1URL: http://www3.panasonic.biz/ac/ae/index.jsp; ComponentLink2Description: Datasheet; ComponentLink2URL: https://www.distrelec.de/ishop/Datasheets/ds_61A01_en_de.pdf; ComponentLink3Description: Package Specification; ComponentLink3URL: https://www.distrelec.de/ishop/Datasheets/ds_61A01_en_de.pdf
footprint PNSC-DE-6-2500x1250x1250_V (DE, 6-Leads, Body 25x12.5mm)
pins: 1 -, 3, 4, 5, 6, 8 +

## DE2AL5D
designator K?
DE Relays, 5 V Coil Voltage, 100 mW Nominal Operating Power, -40 to 70 degC, 6-Pin DE, Tube, Case, RoHS; Manufacturer: Panasonic; PartNumber: DE2AL5D; Coil Voltage: 5 V; Electrical Life: 1x10^5 AC, 5x10^4 DC; Max Switching Current: 8 A; Max Switching Voltage: 440 V AC, 230 V DC; Mechanical Life(Min.operation): 1x10^7; Nominal Operating Power: 200 mW; Pb-Free: True; DatasheetVersion: 150313D; PackageVersion: 150313D, 03/2013; PackageReference: DE-6-2500x1250x1250; PackageDescription: 6-Pin Through Hole Terminal Package, Body 25 x 12.5 mm; Supplier 1: Mouser; Supplier Part Number 1: N/A; Packing: Tube, Case; RoHS: True; Series: DE Relays; Mounting Technology: Through Hole; ComponentLink1Description: Manufacturer URL; ComponentLink1URL: http://www3.panasonic.biz/ac/ae/index.jsp; ComponentLink2Description: Datasheet; ComponentLink2URL: https://www.distrelec.de/ishop/Datasheets/ds_61A01_en_de.pdf; ComponentLink3Description: Package Specification; ComponentLink3URL: https://www.distrelec.de/ishop/Datasheets/ds_61A01_en_de.pdf
footprint PNSC-DE-6-2500x1250x1250_V (DE, 6-Leads, Body 25x12.5mm)
pins: 1 -, 3, 4, 5, 6, 8 +

## DE2AL12D
designator K?
DE Relays, 12 V Coil Voltage, 100 mW Nominal Operating Power, -40 to 70 degC, 6-Pin DE, Tube, Case, RoHS; Manufacturer: Panasonic; PartNumber: DE2AL12D; Coil Voltage: 12 V; Electrical Life: 1x10^5 AC, 5x10^4 DC; Max Switching Current: 8 A; Max Switching Voltage: 440 V AC, 230 V DC; Mechanical Life(Min.operation): 1x10^7; Nominal Operating Power: 200 mW; Pb-Free: True; DatasheetVersion: 150313D; PackageVersion: 150313D, 03/2013; PackageReference: DE-6-2500x1250x1250; PackageDescription: 6-Pin Through Hole Terminal Package, Body 25 x 12.5 mm; Packing: Tube, Case; RoHS: True; Series: DE Relays; Mounting Technology: Through Hole; ComponentLink1Description: Manufacturer URL; ComponentLink1URL: http://www3.panasonic.biz/ac/ae/index.jsp; ComponentLink2Description: Datasheet; ComponentLink2URL: https://www.distrelec.de/ishop/Datasheets/ds_61A01_en_de.pdf; ComponentLink3Description: Package Specification; ComponentLink3URL: https://www.distrelec.de/ishop/Datasheets/ds_61A01_en_de.pdf
footprint PNSC-DE-6-2500x1250x1250_V (DE, 6-Leads, Body 25x12.5mm)
pins: 1 -, 3, 4, 5, 6, 8 +

## DE2AL23D
designator K?
DE Relays, 3 V Coil Voltage, 200 mW Nominal Operating Power, -40 to 70 degC, 8-Pin DE, Tube, Case, RoHS; Manufacturer: Panasonic; PartNumber: DE2AL23D; Coil Voltage: 3 V; Electrical Life: 1x10^5 AC, 5x10^4 DC; Max Switching Current: 8 A; Max Switching Voltage: 440 V AC, 230 V DC; Mechanical Life(Min.operation): 1x10^7; Nominal Operating Power: 200 mW; Pb-Free: True; DatasheetVersion: 150313D; PackageVersion: 150313D, 03/2013; PackageReference: DE-8-2500x1250x1250; PackageDescription: 8-Pin Through Hole Terminal Package, Body 25 x 12.5 mm; Supplier 1: Mouser; Supplier Part Number 1: N/A; Packing: Tube, Case; RoHS: True; Series: DE Relays; Mounting Technology: Through Hole; ComponentLink1Description: Manufacturer URL; ComponentLink1URL: http://www3.panasonic.biz/ac/ae/index.jsp; ComponentLink2Description: Datasheet; ComponentLink2URL: https://www.distrelec.de/ishop/Datasheets/ds_61A01_en_de.pdf; ComponentLink3Description: Package Specification; ComponentLink3URL: https://www.distrelec.de/ishop/Datasheets/ds_61A01_en_de.pdf
footprint PNSC-DE-8-2500x1250x1250_V (DE, 8-Leads, Body 25x12.5mm)
pins: 1 +, 2 +, 3, 4, 5, 6, 7 -, 8 -

## DE2AL24D
designator K?
DE Relays, 24 V Coil Voltage, 100 mW Nominal Operating Power, -40 to 70 degC, 6-Pin DE, Tube, Case, RoHS; Manufacturer: Panasonic; PartNumber: DE2AL24D; Coil Voltage: 24 V; Electrical Life: 1x10^5 AC, 5x10^4 DC; Max Switching Current: 8 A; Max Switching Voltage: 440 V AC, 230 V DC; Mechanical Life(Min.operation): 1x10^7; Nominal Operating Power: 200 mW; Pb-Free: True; DatasheetVersion: 150313D; PackageVersion: 150313D, 03/2013; PackageReference: DE-6-2500x1250x1250; PackageDescription: 6-Pin Through Hole Terminal Package, Body 25 x 12.5 mm; Supplier 1: Mouser; Supplier Part Number 1: N/A; Packing: Tube, Case; RoHS: True; Series: DE Relays; Mounting Technology: Through Hole; ComponentLink1Description: Manufacturer URL; ComponentLink1URL: http://www3.panasonic.biz/ac/ae/index.jsp; ComponentLink2Description: Datasheet; ComponentLink2URL: https://www.distrelec.de/ishop/Datasheets/ds_61A01_en_de.pdf; ComponentLink3Description: Package Specification; ComponentLink3URL: https://www.distrelec.de/ishop/Datasheets/ds_61A01_en_de.pdf
footprint PNSC-DE-6-2500x1250x1250_V (DE, 6-Leads, Body 25x12.5mm)
pins: 1 -, 3, 4, 5, 6, 8 +

## DE2AL25D
designator K?
DE Relays, 5 V Coil Voltage, 200 mW Nominal Operating Power, -40 to 70 degC, 8-Pin DE, Tube, Case, RoHS; Manufacturer: Panasonic; PartNumber: DE2AL25D; Coil Voltage: 5 V; Electrical Life: 1x10^5 AC, 5x10^4 DC; Max Switching Current: 8 A; Max Switching Voltage: 250 V AC, 30 V DC; Mechanical Life(Min.operation): 1x10^7; Nominal Operating Power: 200 mW; Pb-Free: True; DatasheetVersion: 201402-T; PackageVersion: 150313D, 03/2013; PackageReference: DE-8-2500x1250x1250; PackageDescription: 8-Pin Through Hole Terminal Package, Body 25 x 12.5 mm; Supplier 1: Mouser; Supplier Part Number 1: N/A; Packing: Tube, Case; RoHS: True; Series: DE Relays; Mounting Technology: Through Hole; ComponentLink1Description: Manufacturer URL; ComponentLink1URL: http://www3.panasonic.biz/ac/ae/index.jsp; ComponentLink2Description: Datasheet; ComponentLink2URL: http://www3.panasonic.biz/ac/e_download/control/relay/power/catalog/mech_eng_de.pdf?f_cd=300042; ComponentLink3Description: Package Specification; ComponentLink3URL: https://www.distrelec.de/ishop/Datasheets/ds_61A01_en_de.pdf
footprint PNSC-DE-8-2500x1250x1250_V (DE, 8-Leads, Body 25x12.5mm)
pins: 1 +, 2 +, 3, 4, 5, 6, 7 -, 8 -

## DE2AL26D
designator K?
DE Relays, 6 V Coil Voltage, 200 mW Nominal Operating Power, -40 to 70 degC, 8-Pin DE, Tube, Case, RoHS; Manufacturer: Panasonic; PartNumber: DE2AL26D; Coil Voltage: 6 V; Electrical Life: 1x10^5 AC, 5x10^4 DC; Max Switching Current: 8 A; Max Switching Voltage: 440 V AC, 230 V DC; Mechanical Life(Min.operation): 1x10^7; Nominal Operating Power: 200 mW; Pb-Free: True; DatasheetVersion: 150313D; PackageVersion: 150313D, 03/2013; PackageReference: DE-8-2500x1250x1250; PackageDescription: 8-Pin Through Hole Terminal Package, Body 25 x 12.5 mm; Supplier 1: Mouser; Supplier Part Number 1: N/A; Packing: Tube, Case; RoHS: True; Series: DE Relays; Mounting Technology: Through Hole; ComponentLink1Description: Manufacturer URL; ComponentLink1URL: http://www3.panasonic.biz/ac/ae/index.jsp; ComponentLink2Description: Datasheet; ComponentLink2URL: https://www.distrelec.de/ishop/Datasheets/ds_61A01_en_de.pdf; ComponentLink3Description: Package Specification; ComponentLink3URL: https://www.distrelec.de/ishop/Datasheets/ds_61A01_en_de.pdf
footprint PNSC-DE-8-2500x1250x1250_V (DE, 8-Leads, Body 25x12.5mm)
pins: 1 +, 2 +, 3, 4, 5, 6, 7 -, 8 -

## DE2AL212D
designator K?
DE Relays, 12 V Coil Voltage, 200 mW Nominal Operating Power, -40 to 70 degC, 8-Pin DE, Tube, Case, RoHS; Manufacturer: Panasonic; PartNumber: DE2AL212D; Coil Voltage: 12 V; Electrical Life: 1x10^5 AC, 5x10^4 DC; Max Switching Current: 8 A; Max Switching Voltage: 250 V AC, 30 V DC; Mechanical Life(Min.operation): 1x10^7; Nominal Operating Power: 200 mW; Pb-Free: True; DatasheetVersion: 201402-T; PackageVersion: 150313D, 03/2013; PackageReference: DE-8-2500x1250x1250; PackageDescription: 8-Pin Through Hole Terminal Package, Body 25 x 12.5 mm; Supplier 1: Mouser; Supplier Part Number 1: N/A; Packing: Tube, Case; RoHS: True; Series: DE Relays; Mounting Technology: Through Hole; ComponentLink1Description: Manufacturer URL; ComponentLink1URL: http://www3.panasonic.biz/ac/ae/index.jsp; ComponentLink2Description: Datasheet; ComponentLink2URL: http://www3.panasonic.biz/ac/e_download/control/relay/power/catalog/mech_eng_de.pdf?f_cd=300042; ComponentLink3Description: Package Specification; ComponentLink3URL: https://www.distrelec.de/ishop/Datasheets/ds_61A01_en_de.pdf
footprint PNSC-DE-8-2500x1250x1250_V (DE, 8-Leads, Body 25x12.5mm)
pins: 1 +, 2 +, 3, 4, 5, 6, 7 -, 8 -

## DE2AL224D
designator K?
DE Relays, 24 V Coil Voltage, 200 mW Nominal Operating Power, -40 to 70 degC, 8-Pin DE, Tube, Case, RoHS; Manufacturer: Panasonic; PartNumber: DE2AL224D; Coil Voltage: 24 V; Electrical Life: 1x10^5 AC, 5x10^4 DC; Max Switching Current: 8 A; Max Switching Voltage: 250 V AC, 30 V DC; Mechanical Life(Min.operation): 1x10^7; Nominal Operating Power: 200 mW; Pb-Free: True; DatasheetVersion: 201402-T; PackageVersion: 150313D, 03/2013; PackageReference: DE-8-2500x1250x1250; PackageDescription: 8-Pin Through Hole Terminal Package, Body 25 x 12.5 mm; Supplier 1: Mouser; Supplier Part Number 1: N/A; Packing: Tube, Case; RoHS: True; Series: DE Relays; Mounting Technology: Through Hole; ComponentLink1Description: Manufacturer URL; ComponentLink1URL: http://www3.panasonic.biz/ac/ae/index.jsp; ComponentLink2Description: Datasheet; ComponentLink2URL: http://www3.panasonic.biz/ac/e_download/control/relay/power/catalog/mech_eng_de.pdf?f_cd=300042; ComponentLink3Description: Package Specification; ComponentLink3URL: https://www.distrelec.de/ishop/Datasheets/ds_61A01_en_de.pdf
footprint PNSC-DE-8-2500x1250x1250_V (DE, 8-Leads, Body 25x12.5mm)
pins: 1 +, 2 +, 3, 4, 5, 6, 7 -, 8 -

## DSP1ADC3V
designator K?
DSP Relays, 3 V Coil Voltage, 300 mW Nominal Operating Power, -40 to 65 degC, 4-Pin DSP, Carton, Case, RoHS; Manufacturer: Panasonic; PartNumber: DSP1ADC3V; Coil Voltage: 3 V; Electrical Life: 1x10^5; Max Switching Current: 8 A; Max Switching Voltage: 250 V AC, 30 V DC; Mechanical Life(Min.operation): 5x10^7; Nominal Operating Power: 300 mW; Pb-Free: True; DatasheetVersion: 151106D; PackageVersion: 151106D, 04/2008; PackageReference: DSP-4-2020x1100x1050; PackageDescription: 4-Pin Through Hole Terminal Package, Body 20.2 x 11 mm; Packing: Carton, Case; RoHS: True; Series: DSP Relays; Mounting Technology: Through Hole; ComponentLink1Description: Manufacturer URL; ComponentLink1URL: http://www3.panasonic.biz/ac/ae/index.jsp; ComponentLink2Description: Datasheet; ComponentLink2URL: http://www.produktinfo.conrad.com/datenblaetter/500000-524999/504985-da-01-en-LEISTUNGSRELAIS_DSP1_1A1B_5A_12V.pdf; ComponentLink3Description: Package Specification; ComponentLink3URL: http://www.produktinfo.conrad.com/datenblaetter/500000-524999/504985-da-01-en-LEISTUNGSRELAIS_DSP1_1A1B_5A_12V.pdf
footprint PNSC-DSP-4-2020x1100x1050_V (DSP, 4-Leads, Body 20.2x11mm)
pins: 1 +, 5, 8, 16 -

## DSP1ADC5V
designator K?
DSP Relays, 5 V Coil Voltage, 300 mW Nominal Operating Power, -40 to 65 degC, 4-Pin DSP, Carton, Case, RoHS; Manufacturer: Panasonic; PartNumber: DSP1ADC5V; Coil Voltage: 5 V; Electrical Life: 1x10^5; Max Switching Current: 8 A; Max Switching Voltage: 250 V AC, 30 V DC; Mechanical Life(Min.operation): 5x10^7; Nominal Operating Power: 300 mW; Pb-Free: True; DatasheetVersion: 151106D; PackageVersion: 151106D, 04/2008; PackageReference: DSP-4-2020x1100x1050; PackageDescription: 4-Pin Through Hole Terminal Package, Body 20.2 x 11 mm; Packing: Carton, Case; RoHS: True; Series: DSP Relays; Mounting Technology: Through Hole; ComponentLink1Description: Manufacturer URL; ComponentLink1URL: http://www3.panasonic.biz/ac/ae/index.jsp; ComponentLink2Description: Datasheet; ComponentLink2URL: http://www.produktinfo.conrad.com/datenblaetter/500000-524999/504985-da-01-en-LEISTUNGSRELAIS_DSP1_1A1B_5A_12V.pdf; ComponentLink3Description: Package Specification; ComponentLink3URL: http://www.produktinfo.conrad.com/datenblaetter/500000-524999/504985-da-01-en-LEISTUNGSRELAIS_DSP1_1A1B_5A_12V.pdf
footprint PNSC-DSP-4-2020x1100x1050_V (DSP, 4-Leads, Body 20.2x11mm)
pins: 1 +, 5, 8, 16 -

## DSP1ADC6V
designator K?
DSP Relays, 6 V Coil Voltage, 300 mW Nominal Operating Power, -40 to 65 degC, 4-Pin DSP, Carton, Case, RoHS; Manufacturer: Panasonic; PartNumber: DSP1ADC6V; Coil Voltage: 6 V; Electrical Life: 1x10^5; Max Switching Current: 8 A; Max Switching Voltage: 250 V AC, 30 V DC; Mechanical Life(Min.operation): 5x10^7; Nominal Operating Power: 300 mW; Pb-Free: True; DatasheetVersion: 151106D; PackageVersion: 151106D, 04/2008; PackageReference: DSP-4-2020x1100x1050; PackageDescription: 4-Pin Through Hole Terminal Package, Body 20.2 x 11 mm; Packing: Carton, Case; RoHS: True; Series: DSP Relays; Mounting Technology: Through Hole; ComponentLink1Description: Manufacturer URL; ComponentLink1URL: http://www3.panasonic.biz/ac/ae/index.jsp; ComponentLink2Description: Datasheet; ComponentLink2URL: http://www.produktinfo.conrad.com/datenblaetter/500000-524999/504985-da-01-en-LEISTUNGSRELAIS_DSP1_1A1B_5A_12V.pdf; ComponentLink3Description: Package Specification; ComponentLink3URL: http://www.produktinfo.conrad.com/datenblaetter/500000-524999/504985-da-01-en-LEISTUNGSRELAIS_DSP1_1A1B_5A_12V.pdf
footprint PNSC-DSP-4-2020x1100x1050_V (DSP, 4-Leads, Body 20.2x11mm)
pins: 1 +, 5, 8, 16 -

## DSP1ADC9V
designator K?
DSP Relays, 9 V Coil Voltage, 300 mW Nominal Operating Power, -40 to 65 degC, 4-Pin DSP, Carton, Case, RoHS; Manufacturer: Panasonic; PartNumber: DSP1ADC9V; Coil Voltage: 9 V; Electrical Life: 1x10^5; Max Switching Current: 8 A; Max Switching Voltage: 250 V AC, 30 V DC; Mechanical Life(Min.operation): 5x10^7; Nominal Operating Power: 300 mW; Pb-Free: True; DatasheetVersion: 151106D; PackageVersion: 151106D, 04/2008; PackageReference: DSP-4-2020x1100x1050; PackageDescription: 4-Pin Through Hole Terminal Package, Body 20.2 x 11 mm; Packing: Carton, Case; RoHS: True; Series: DSP Relays; Mounting Technology: Through Hole; ComponentLink1Description: Manufacturer URL; ComponentLink1URL: http://www3.panasonic.biz/ac/ae/index.jsp; ComponentLink2Description: Datasheet; ComponentLink2URL: http://www.produktinfo.conrad.com/datenblaetter/500000-524999/504985-da-01-en-LEISTUNGSRELAIS_DSP1_1A1B_5A_12V.pdf; ComponentLink3Description: Package Specification; ComponentLink3URL: http://www.produktinfo.conrad.com/datenblaetter/500000-524999/504985-da-01-en-LEISTUNGSRELAIS_DSP1_1A1B_5A_12V.pdf
footprint PNSC-DSP-4-2020x1100x1050_V (DSP, 4-Leads, Body 20.2x11mm)
pins: 1 +, 5, 8, 16 -

## DSP1ADC12V
designator K?
DSP Relays, 12 V Coil Voltage, 300 mW Nominal Operating Power, -40 to 65 degC, 4-Pin DSP, Carton, Case, RoHS; Manufacturer: Panasonic; PartNumber: DSP1ADC12V; Coil Voltage: 12 V; Electrical Life: 1x10^5; Max Switching Current: 8 A; Max Switching Voltage: 250 V AC, 30 V DC; Mechanical Life(Min.operation): 5x10^7; Nominal Operating Power: 300 mW; Pb-Free: True; DatasheetVersion: 151106D; PackageVersion: 151106D, 04/2008; PackageReference: DSP-4-2020x1100x1050; PackageDescription: 4-Pin Through Hole Terminal Package, Body 20.2 x 11 mm; Packing: Carton, Case; RoHS: True; Series: DSP Relays; Mounting Technology: Through Hole; ComponentLink1Description: Manufacturer URL; ComponentLink1URL: http://www3.panasonic.biz/ac/ae/index.jsp; ComponentLink2Description: Datasheet; ComponentLink2URL: http://www.produktinfo.conrad.com/datenblaetter/500000-524999/504985-da-01-en-LEISTUNGSRELAIS_DSP1_1A1B_5A_12V.pdf; ComponentLink3Description: Package Specification; ComponentLink3URL: http://www.produktinfo.conrad.com/datenblaetter/500000-524999/504985-da-01-en-LEISTUNGSRELAIS_DSP1_1A1B_5A_12V.pdf
footprint PNSC-DSP-4-2020x1100x1050_V (DSP, 4-Leads, Body 20.2x11mm)
pins: 1 +, 5, 8, 16 -

## DSP1ADC24V
designator K?
DSP Relays, 24 V Coil Voltage, 300 mW Nominal Operating Power, -40 to 65 degC, 4-Pin DSP, Carton, Case, RoHS; Manufacturer: Panasonic; PartNumber: DSP1ADC24V; Coil Voltage: 24 V; Electrical Life: 1x10^5; Max Switching Current: 8 A; Max Switching Voltage: 250 V AC, 30 V DC; Mechanical Life(Min.operation): 5x10^7; Nominal Operating Power: 300 mW; Pb-Free: True; DatasheetVersion: 151106D; PackageVersion: 151106D, 04/2008; PackageReference: DSP-4-2020x1100x1050; PackageDescription: 4-Pin Through Hole Terminal Package, Body 20.2 x 11 mm; Packing: Carton, Case; RoHS: True; Series: DSP Relays; Mounting Technology: Through Hole; ComponentLink1Description: Manufacturer URL; ComponentLink1URL: http://www3.panasonic.biz/ac/ae/index.jsp; ComponentLink2Description: Datasheet; ComponentLink2URL: http://www.produktinfo.conrad.com/datenblaetter/500000-524999/504985-da-01-en-LEISTUNGSRELAIS_DSP1_1A1B_5A_12V.pdf; ComponentLink3Description: Package Specification; ComponentLink3URL: http://www.produktinfo.conrad.com/datenblaetter/500000-524999/504985-da-01-en-LEISTUNGSRELAIS_DSP1_1A1B_5A_12V.pdf
footprint PNSC-DSP-4-2020x1100x1050_V (DSP, 4-Leads, Body 20.2x11mm)
pins: 1 +, 5, 8, 16 -